# EAGLE library part UC2-*-NU (library mylib)
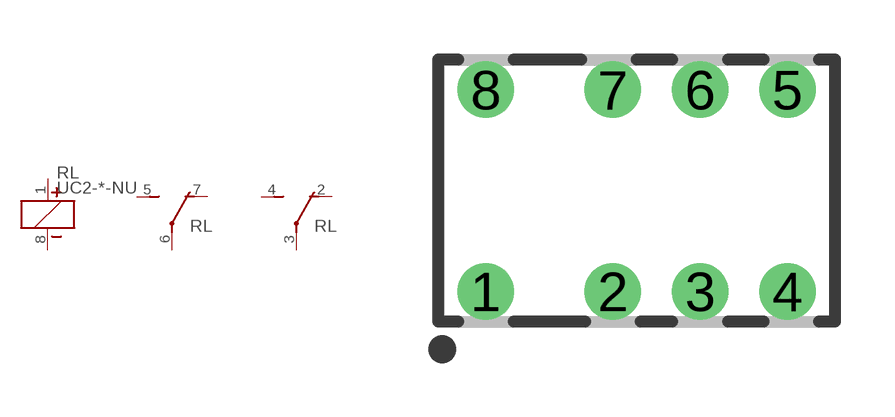
[diagram p134: symbol with the pads of G6K-2P-Y; footprint G6K-2P-Y]

Designator prefix RL; gates G$1=RELAY-COIL-POL G$2=PART-RELAY-SW G$3=PART-RELAY-SW

## UC2-5-NU (DIGIKEY: UC2-5NU-ND; MOUSER: 80-UC2-5NU)  [G6K-2P-Y]
1  G$1:1  pas
2  G$3:NC  pas
3  G$3:COM  pas
4  G$3:NO  pas
5  G$2:NO  pas
6  G$2:COM  pas
7  G$2:NC  pas
8  G$1:2  pas

## Footprint G6K-2P-Y (pad centres in mm)
drill 0.8 pad 1.422: 1 0,-2.54; 2 3.2,-2.54; 3 5.4,-2.54; 4 7.6,-2.54; 5 7.6,2.54; 6 5.4,2.54; 7 3.2,2.54; 8 0,2.54